# Altium schematic symbol library Res1 56k.SCHLIB: 1 symbol
Pins are listed as number, name and electrical type; pins without a type are passive.

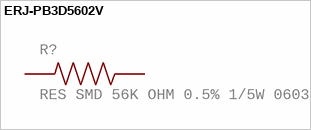
[diagram p0: symbol ERJ-PB3D5602V]

## ERJ-PB3D5602V
designator R?, comment RES SMD 56K OHM 0.5% 1/5W 0603
GateName_1: G$1; SymbolName_1: ERJ-PB3D5602V; Description: Res Thick Film 0603 56K Ohm 0.5% 0.2W(1/5W) ±50ppm/°C Pad SMD Automotive T/R; MF: Panasonic; LibraryName: Res1 56k; DeviceSetName: ERJ-PB3D5602V; Package: RESC1608X55N; MP: ERJ-PB3D5602V; Package: 1608 Panasonic Electronic Components
footprint RESC1608X55N
pins: 1, 2